# EAGLE library part 555TIMER (library SolTest)
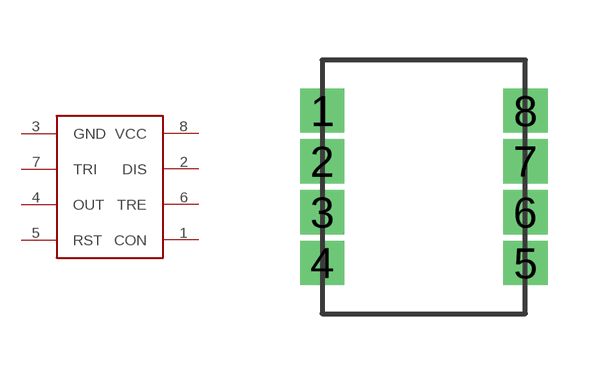
[diagram p0: symbol with the pads of 555TIME; footprint 555TIME]

Designator prefix -

## 555TIMER  [555TIME]
1  CON
2  DIS
3  GND
4  OUT
5  RST
6  TRE
7  TRI
8  VCC

## Footprint 555TIME (pad centres in mm)
drill 0.6 square: 1 -2.54,2.54; 2 -2.54,1.27; 3 -2.54,0; 4 -2.54,-1.27; 5 2.54,-1.27; 6 2.54,0; 7 2.54,1.27; 8 2.54,2.54